# Altium schematic symbol library Schlib1.SchLib: 32 symbols
Pins are listed as number, name and electrical type; pins without a type are passive.

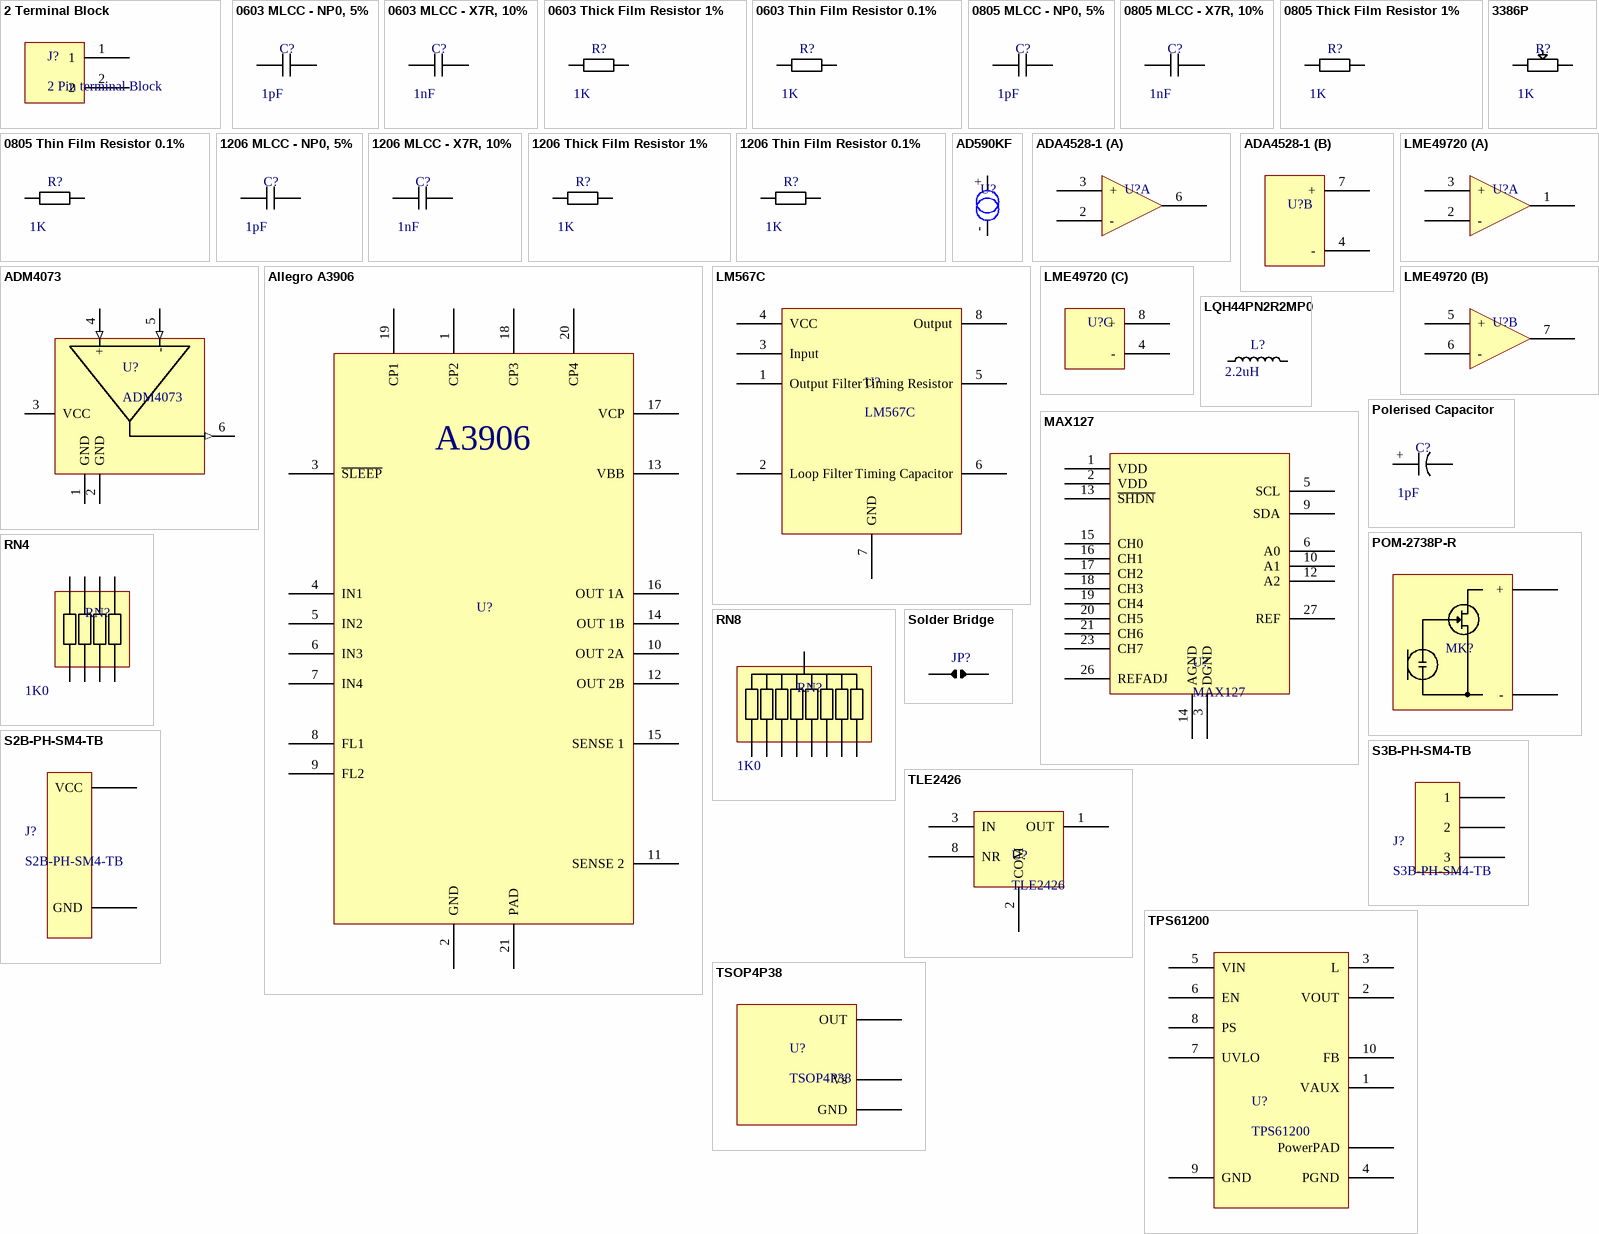
[diagram p0: symbols 2 Terminal Block to TSOP4P38]

## 2 Terminal Block
designator J?, comment 2 Pin terminal Block
footprint 5.05mm Terminal Block - 2
pins: 1, 2

## 0603 MLCC - NP0, 5%
designator C?, comment value 1pF  (hidden comment: 0603 Cap)
0603 MLCC - NP0, 5%
footprint 0603 Cap (0603 Capacitor)
pins: 1, 2

## 0603 MLCC - X7R, 10%
designator C?, comment value 1nF  (hidden comment: 0603 Cap)
0603 MLCC - X7R, 10%
footprint 0603 Cap (0603 Capacitor)
pins: 1, 2

## 0603 Thick Film Resistor 1%
designator R?, comment value 1K  (hidden comment: 0603 Resistor)
0603 Thick Film Resistor 1%
footprint 0603 Resistor
pins: 1, 2

## 0603 Thin Film Resistor 0.1%
designator R?, comment value 1K  (hidden comment: 0603 Resistor)
0603 Thin Film Resistor 0.1%
footprint 0603 Resistor
pins: 1, 2

## 0805 MLCC - NP0, 5%
designator C?, comment value 1pF  (hidden comment: 0805 Cap)
0805 MLCC - NP0, 5%
footprint 0805 Cap (0805 Capacitor)
pins: 1, 2

## 0805 MLCC - X7R, 10%
designator C?, comment value 1nF  (hidden comment: 0805 Cap)
0805 MLCC - X7R, 10%
footprint 0805 Cap (0805 Capacitor)
pins: 1, 2

## 0805 Thick Film Resistor 1%
designator R?, comment value 1K  (hidden comment: 0805 Resistor)
0805 Thick Film Resistor 1%
footprint 0805 Resistor
pins: 1, 2

## 0805 Thin Film Resistor 0.1%
designator R?, comment value 1K  (hidden comment: 0805 Resistor)
0805 Thin Film Resistor 0.1%
footprint 0805 Resistor
pins: 1, 2

## 1206 MLCC - NP0, 5%
designator C?, comment value 1pF  (hidden comment: 1206 Cap)
1206 MLCC - NP0, 5%
footprint 1206 Cap (1206 Capacitor)
pins: 1, 2

## 1206 MLCC - X7R, 10%
designator C?, comment value 1nF  (hidden comment: 1206 Cap)
1206 MLCC - X7R, 10%
footprint 1206 Cap (1206 Capacitor)
pins: 1, 2

## 1206 Thick Film Resistor 1%
designator R?, comment value 1K  (hidden comment: 1206 Resistor)
1206 Thick Film Resistor 1%
footprint 1206 Resistor
pins: 1, 2

## 1206 Thin Film Resistor 0.1%
designator R?, comment value 1K  (hidden comment: 1206 Resistor)
1206 Thin Film Resistor 0.1%
footprint 1206 Resistor
pins: 1, 2

## 3386P
designator R?  value 1K  (hidden comment: 3386P)
3386P Trim Pot
footprint 3386P (Trim Pot Bournes)
pins: 1, 2, 3

## AD590KF
designator U?  (value not drawn)
Temperature sensor IC
footprint 5.05mm Terminal Block - 2; pin to pad +>1 ->2
pins: +, -

## ADA4528-1
designator U?  (value not drawn)
Dual, High Performance Audio Operational Amplifier; ComponentLink1Description: Datasheet; ComponentLink1URL: http://www.national.com/ds/LM/LME49720.pdf
footprint SOIC8 - LME49720
part A pins: 2 -, 3 +, 6 Out
part B pins: 4 - (power), 7 + (power)

## ADM4073
designator U?
Current Sense Amplifer
footprint SOT95P285X145-6N (SOT23, 6-Leads, Body 3.0x3.0mm (max), Pitch 0.95mm, IPC Medium Density)
pins: 1 GND, 2 GND, 3 VCC, 4 + (in), 5 - (in), 6 (out)

## Allegro A3906
designator U?, comment A3906  (value not drawn)
A3906 Allegro Stepper controller; ComponentLink1Description: Datasheet; ComponentLink1URL: http://www.allegromicro.com/en/Products/Part_Numbers/3906/3906.pdf
footprint QFN20 - A3906 (QFN, 20-Leads, Body 4.2x4.2mm (max), Pitch 0.50mm, IPC Medium Density)
pins: 1 CP2, 2 GND, 3 ~{SLEEP}, 4 IN1, 5 IN2, 6 IN3, 7 IN4, 8 FL1, 9 FL2, 10 OUT 2A, 11 SENSE 2, 12 OUT 2B, 13 VBB, 14 OUT 1B, 15 SENSE 1, 16 OUT 1A, 17 VCP, 18 CP3, 19 CP1, 20 CP4, 21 PAD

## LM567C
designator U?
Tone Decoder; ComponentLink1URL: http://www.national.com/mpf/LM/LM567C.html; ComponentLink1Description: Component Information
footprint SOIC8 - LM567CM (SOIC, 8-Leads, Body 5.0x4.0mm (max), Pitch 1.27mm, IPC Medium Density)
pins: 1 Output Filter, 2 Loop Filter, 3 Input, 4 VCC (power), 5 Timing Resistor, 6 Timing Capacitor, 7 GND (power), 8 Output

## LME49720
designator U?  (value not drawn)
Dual, High Performance Audio Operational Amplifier; ComponentLink1Description: Datasheet; ComponentLink1URL: http://www.national.com/ds/LM/LME49720.pdf
footprint SOIC8 - LME49720
part A pins: 1 Out, 2 -, 3 +
part B pins: 5 +, 6 -, 7 Out
part C pins: 4 - (power), 8 + (power)

## LQH44PN2R2MP0
designator L?  value 2.2uH  (hidden comment: LQH44PN2R2MP0)
Inductor 4x4mm 2.2uH; ComponentLink1Description: Datasheet; ComponentLink1URL: http://search.murata.co.jp/Ceramy/image/img/PDF/ENG/L0075S0103LQH44P.pdf
footprint INDP4037X16N (Precision Wire Wound Inductor, 2-Leads, Body 4.0x3.7mm, IPC Medium Density)
pins: 1, 2

## MAX127
designator U?
8 Channel, 12 bit, I2C DAS
footprint SSOP28 - MAX127 (SOP, 28-Leads, Body 10.3x5.4mm (max), Pitch 0.65mm, IPC Medium Density)
pins: 1 VDD, 2 VDD, 3 DGND, 5 SCL, 6 A0, 9 SDA, 10 A1, 12 A2, 13 ~{SHDN}, 14 AGND, 15 CH0, 16 CH1, 17 CH2, 18 CH3, 19 CH4, 20 CH5, 21 CH6, 23 CH7, 26 REFADJ, 27 REF

## Polerised Capacitor
designator C?, comment value 1pF  (hidden comment: Cap)
Polerised Capacitor
footprint 0603 Cap (0603 Capacitor)
pins: + 1, - 2

## POM-2738P-R
designator MK?  (value not drawn)
Electret Microphone Capsule
footprint POM-2738P-R
pins: 1 +, 2 -

## RN4
designator RN?  value 1K0  (hidden comment: *)
footprint ACAS_0612_AC (Resistor network)
pins: 1, 2, 3, 4, 5, 6, 7, 8

## RN8
designator RN?  value 1K0  (hidden comment: *)
pins: 1, 1, 1, 1, 1, 1, 1, 1, 1

## S2B-PH-SM4-TB
designator J?
JST connector
footprint S2B-PH-SM4-TB
pins: 1 VCC, 2 GND

## S3B-PH-SM4-TB
designator J?
JST connector
footprint S3B-PH-SM4-TB
pins: 1, 2, 3

## Solder Bridge
designator JP?, comment Jumper  (value not drawn)
Solder Bridge
footprint Solder Jumper A
footprint Solder Jumper B
footprint Solder Jumper C
footprint Solder Jumper D
footprint Solder Jumper E
pins: 1, 2

## TLE2426
designator U?
TLE2426 Precision Virtual Ground; ComponentLink1URL: http://www.ti.com/lit/ds/symlink/tle2426.pdf; ComponentLink1Description: Datasheet
footprint SOIC8 - TLE2426 (SOIC, 8-Leads, Body 5.0x4.0mm (max), Pitch 1.27mm, IPC Medium Density)
pins: 1 OUT, 2 COM, 3 IN, 8 NR

## TPS61200
designator U?
LOW INPUT VOLTAGE SYNCHRONOUS BOOST CONVERTER  WITH 1.3-A SWITCHES; ComponentLink1Description: Datasheet; ComponentLink1URL: http://www.ti.com/lit/ds/slvs577b/slvs577b.pdf
footprint QFN10 -TPS61200 (QFN, 14-Leads, Body 3.1x3.1mm (max), Pitch 0.50mm, IPC Medium Density)
pins: 0 PowerPAD, 1 VAUX, 2 VOUT, 3 L, 4 PGND, 5 VIN, 6 EN, 7 UVLO, 8 PS, 9 GND, 10 FB

## TSOP4P38
designator U?
IR Reciever IC
footprint TSOP4P38
pins: 1 OUT, 2 GND, 3 Vs